# Altium footprint library MAX9939AUB&plus_T.PcbLib: 3 footprints
Each footprint in its own frame and in the unit in brackets; x right, y up, seen from the top. Pads: shape width x height; smd on the part's side, far side on the other; paste and mask are expansions set on the pad; w line width, h text height; cw(c..) or ccw(c..) is an arc to the next point about the centre after c.
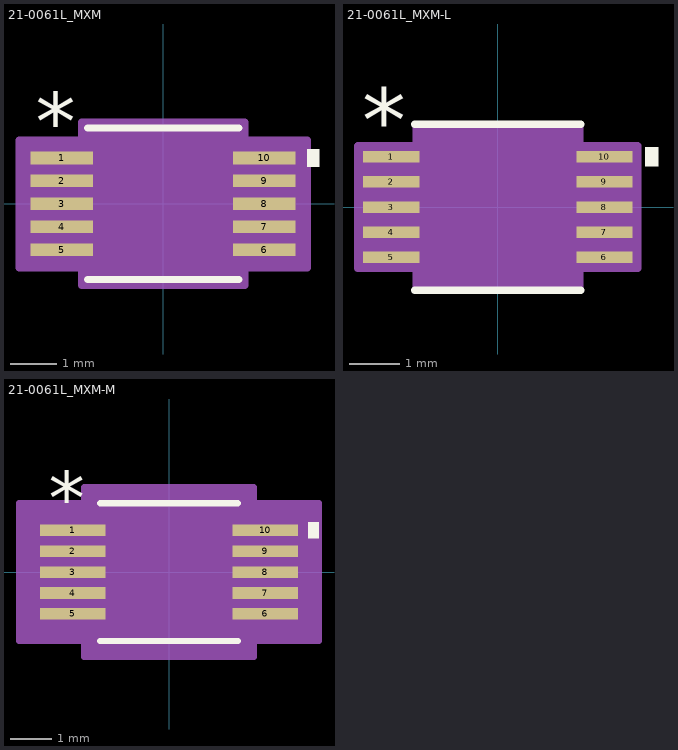
[diagram p0: the footprints below, top view; thin cyan lines are the x and y axes]

## 21-0061L_MXM [mil]
pads (10):
  rect 53.5x11 smd paste+0 mask+0: 1(-86.75,39.37) 2(-86.75,19.68) 3(-86.75,0) 4(-86.75,-19.68) 5(-86.75,-39.37) 6(86.75,-39.37) 7(86.75,-19.68) 8(86.75,0) 9(86.75,19.68) 10(86.75,39.37)
Top Overlay:
  region: 123.5,46.87 133.5,46.87 133.5,31.87 123.5,31.87
  lines w6: -65,-65 65,-65 ; -65,65 65,65
  text "*" at -109.25,45.37 h50
Mechanical 13:
  lines w0: -12,60 ccw(c0,60) 12,60
  lines w1: -99.5,-44.87 -99.5,-33.87 -60,-33.87 -60,-44.87 -99.5,-44.87 ; -99.5,-25.18 -99.5,-14.19 -60,-14.19 -60,-25.18 -99.5,-25.18 ; -99.5,-5.5 -99.5,5.5 -60,5.5 -60,-5.5 -99.5,-5.5 ; -99.5,14.19 -99.5,25.18 -60,25.18 -60,14.19 -99.5,14.19 ; -99.5,33.87 -99.5,44.87 -60,44.87 -60,33.87 -99.5,33.87 ; -60,-60 60,-60 60,60 -60,60 -60,-60 ; 60,-44.87 60,-33.87 99.5,-33.87 99.5,-44.87 60,-44.87 ; 60,-25.18 60,-14.19 99.5,-14.19 99.5,-25.18 60,-25.18 ; 60,-5.5 60,5.5 99.5,5.5 99.5,-5.5 60,-5.5 ; 60,14.19 60,25.18 99.5,25.18 99.5,14.19 60,14.19 ; 60,33.87 60,44.87 99.5,44.87 99.5,33.87 60,33.87
  text "*" at -57.5,7 h50
Mechanical 15:
  region: -70,-54.87 -123.5,-54.87 -123.5,54.87 -70,54.87 -70,70 70,70 70,54.87 123.5,54.87 123.5,-54.87 70,-54.87 70,-70 -70,-70
  lines w6: -123.5,-54.87 -123.5,54.87 -70,54.87 -70,70 70,70 70,54.87 123.5,54.87 123.5,-54.87 70,-54.87 70,-70 -70,-70 -70,-54.87 -123.5,-54.87
3D body "21-0061L_MXM.step": height 43.11, standoff 0, extent -99.49,-60 99.49,60

## 21-0061L_MXM-L [mil]
pads (10):
  rect 44x9 smd paste+0 mask+0: 1(-83.5,39.37) 2(-83.5,19.68) 3(-83.5,0) 4(-83.5,-19.68) 5(-83.5,-39.37) 6(83.5,-39.37) 7(83.5,-19.68) 8(83.5,0) 9(83.5,19.68) 10(83.5,39.37)
Top Overlay:
  region: 115.5,46.87 125.5,46.87 125.5,31.87 115.5,31.87
  lines w6: -65,-65 65,-65 ; -65,65 65,65
  text "*" at -106,43.37 h50
Mechanical 13:
  lines w0: -12,60 ccw(c0,60) 12,60
  lines w1: -99.5,-44.87 -99.5,-33.87 -60,-33.87 -60,-44.87 -99.5,-44.87 ; -99.5,-25.18 -99.5,-14.19 -60,-14.19 -60,-25.18 -99.5,-25.18 ; -99.5,-5.5 -99.5,5.5 -60,5.5 -60,-5.5 -99.5,-5.5 ; -99.5,14.19 -99.5,25.18 -60,25.18 -60,14.19 -99.5,14.19 ; -99.5,33.87 -99.5,44.87 -60,44.87 -60,33.87 -99.5,33.87 ; -60,-60 60,-60 60,60 -60,60 -60,-60 ; 60,-44.87 60,-33.87 99.5,-33.87 99.5,-44.87 60,-44.87 ; 60,-25.18 60,-14.19 99.5,-14.19 99.5,-25.18 60,-25.18 ; 60,-5.5 60,5.5 99.5,5.5 99.5,-5.5 60,-5.5 ; 60,14.19 60,25.18 99.5,25.18 99.5,14.19 60,14.19 ; 60,33.87 60,44.87 99.5,44.87 99.5,33.87 60,33.87
  text "*" at -57.5,7 h50
Mechanical 15:
  region: -64,-47.87 -109.5,-47.87 -109.5,47.87 -64,47.87 -64,64 64,64 64,47.87 109.5,47.87 109.5,-47.87 64,-47.87 64,-64 -64,-64
  lines w6: -109.5,-47.87 -109.5,47.87 -64,47.87 -64,64 64,64 64,47.87 109.5,47.87 109.5,-47.87 64,-47.87 64,-64 -64,-64 -64,-47.87 -109.5,-47.87
3D body "21-0061L_MXM.step": height 43.11, standoff 0, extent -99.49,-60 99.49,60

## 21-0061L_MXM-M [mil]
pads (10):
  rect 61.5x11 smd paste+0 mask+0: 1(-90.75,39.37) 2(-90.75,19.68) 3(-90.75,0) 4(-90.75,-19.68) 5(-90.75,-39.37) 6(90.75,-39.37) 7(90.75,-19.68) 8(90.75,0) 9(90.75,19.68) 10(90.75,39.37)
Top Overlay:
  region: 131.5,46.87 141.5,46.87 141.5,31.87 131.5,31.87
  lines w6: -65,-65 65,-65 ; -65,65 65,65
  text "*" at -113.25,45.37 h50
Mechanical 13:
  lines w0: -12,60 ccw(c0,60) 12,60
  lines w1: -99.5,-44.87 -99.5,-33.87 -60,-33.87 -60,-44.87 -99.5,-44.87 ; -99.5,-25.18 -99.5,-14.19 -60,-14.19 -60,-25.18 -99.5,-25.18 ; -99.5,-5.5 -99.5,5.5 -60,5.5 -60,-5.5 -99.5,-5.5 ; -99.5,14.19 -99.5,25.18 -60,25.18 -60,14.19 -99.5,14.19 ; -99.5,33.87 -99.5,44.87 -60,44.87 -60,33.87 -99.5,33.87 ; -60,-60 60,-60 60,60 -60,60 -60,-60 ; 60,-44.87 60,-33.87 99.5,-33.87 99.5,-44.87 60,-44.87 ; 60,-25.18 60,-14.19 99.5,-14.19 99.5,-25.18 60,-25.18 ; 60,-5.5 60,5.5 99.5,5.5 99.5,-5.5 60,-5.5 ; 60,14.19 60,25.18 99.5,25.18 99.5,14.19 60,14.19 ; 60,33.87 60,44.87 99.5,44.87 99.5,33.87 60,33.87
  text "*" at -57.5,7 h50
Mechanical 15:
  region: -80,-64.87 -141.5,-64.87 -141.5,64.87 -80,64.87 -80,80 80,80 80,64.87 141.5,64.87 141.5,-64.87 80,-64.87 80,-80 -80,-80
  lines w6: -141.5,-64.87 -141.5,64.87 -80,64.87 -80,80 80,80 80,64.87 141.5,64.87 141.5,-64.87 80,-64.87 80,-80 -80,-80 -80,-64.87 -141.5,-64.87
3D body "21-0061L_MXM.step": height 43.11, standoff 0, extent -99.49,-60 99.49,60